# EAGLE library part TEXAS_INSTRUMENTS-MOSFET-CSD88537ND (library Module_ICs)
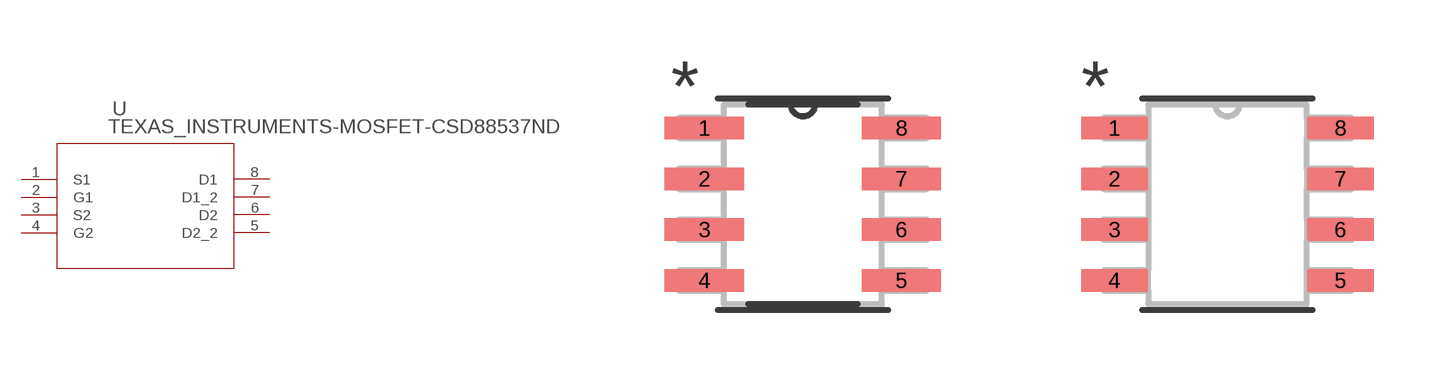
[diagram p60: symbol with the pads of D8; footprints D8, D8-M]

Designator prefix U

## TEXAS_INSTRUMENTS-MOSFET-CSD88537ND (BUILT_BY: EMA_UL_Team; MANUFACTURER_PART_NUMBER: CSD88537ND; VENDOR: Texas Instruments)  [D8]
1  S1  pas
2  G1  pas
3  S2  pas
4  G2  pas
5  D2_2  pas
6  D2  pas
7  D1_2  pas
8  D1  pas

## TEXAS_INSTRUMENTS-MOSFET-CSD88537NDD8-M (BUILT_BY: EMA_UL_Team; MANUFACTURER_PART_NUMBER: CSD88537ND; VENDOR: Texas Instruments)  [D8-M]
Pads as for D8

## TEXAS_INSTRUMENTS-MOSFET-CSD88537NDD8-L (BUILT_BY: EMA_UL_Team; MANUFACTURER_PART_NUMBER: CSD88537ND; VENDOR: Texas Instruments)  [D8-L]
Pads as for D8

## Footprint D8 (pad centres in mm)
smd 1.981 x 0.559: 1 -2.464,1.905; 2 -2.464,0.635; 3 -2.464,-0.635; 4 -2.464,-1.905; 5 2.464,-1.905; 6 2.464,-0.635; 7 2.464,0.635; 8 2.464,1.905

## Footprint D8-M (pad centres in mm)
smd 1.664 x 0.559: 1 -2.826,1.905; 2 -2.826,0.635; 3 -2.826,-0.635; 4 -2.826,-1.905; 5 2.826,-1.905; 6 2.826,-0.635; 7 2.826,0.635; 8 2.826,1.905

## Footprint D8-L (pad centres in mm)
smd 1.257 x 0.508: 1 -2.623,1.905; 2 -2.623,0.635; 3 -2.623,-0.635; 4 -2.623,-1.905; 5 2.623,-1.905; 6 2.623,-0.635; 7 2.623,0.635; 8 2.623,1.905